# EAGLE library part ACPL-227 (library PP_DigitalIC)
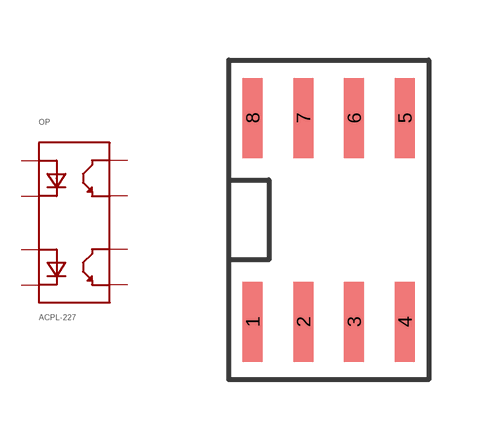
[diagram p13: symbol with the pads of SOIC-8; footprint SOIC-8]

Designator prefix OP

## ACPL-227SOIC-8  [SOIC-8]
1  1
2  2
3  3
4  4
5  5
6  6
7  7
8  8

## Footprint SOIC-8 (pad centres in mm)
smd 0.5 x 2: 1 -1.905,-2.55; 2 -0.635,-2.55; 3 0.635,-2.55; 4 1.905,-2.55; 5 1.905,2.55; 6 0.635,2.55; 7 -0.635,2.55; 8 -1.905,2.55